# Altium schematic symbol library CRCW12063K30JNEB.SchLib: 1 symbol
Pins are listed as number, name and electrical type; pins without a type are passive.

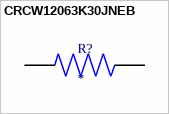
[diagram p0: symbol CRCW12063K30JNEB]

## CRCW12063K30JNEB
designator R?
RES SMD 3.3K OHM 5% 1/4W 1206; MP: CRCW12063K30JNEB; Package: None; Price: None; Value: *; Availability: Unavailable
footprint RESC3116X60N
pins: 1, 2